# Altium integrated library LT Converter Current to Voltage.IntLib: 1 symbol
Pins are listed as number, name and electrical type; pins without a type are passive.

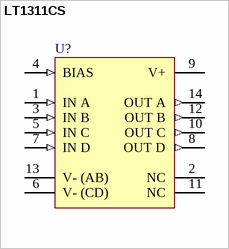
[diagram p0: symbol LT1311CS]

## LT1311CS
designator U?
Quad 12MHz, 145ns Settling Precision Current-to-Voltage Converter for Optical Disk Drives; Note: Pins 2 and 11 are NC (not internally connected) pins.; Note: 1055; Published: 8-Jun-2000; LatestRevisionDate: 13-Apr-2006; LatestRevisionNote: IPC-7351 Footprint Added.; DatasheetVersion: 1996; PackageReference: S14; Publisher: Altium Limited; PackageDescription: 14-Pin Small Outline Integrated Circuit 1.27 mm Pitch; Code_JEDEC: MS-012-AB; Code_IPC: SOIC127P600-14; ComponentLink1Description: Manufacturer Link; ComponentLink1URL: http://www.linear.com/; ComponentLink2Description: Datasheet; ComponentLink2URL: http://www.linear.com/pc/downloadDocument.do?navId=H0,C3,P1047,D2088
footprint S14_N (SOIC, 14-Leads, Body 8.6x3.9mm, Pitch 1.27mm, IPC Medium Density)
footprint S14_L (SOIC, 14-Leads, Body 8.6x3.9mm, Pitch 1.27mm, IPC High Density)
footprint S14_M (SOIC, 14-Leads, Body 8.6x3.9mm, Pitch 1.27mm, IPC Low Density)
3D model S14 (14-Pin Small Outline Integrated Circuit 1.27 mm Pitch)
pins: 1 IN A (in), 2 NC, 3 IN B (in), 4 BIAS (in), 5 IN C (in), 6 V- (CD) (power), 7 IN D (in), 8 OUT D (out), 9 V+ (power), 10 OUT C (out), 11 NC, 12 OUT B (out), 13 V- (AB) (power), 14 OUT A (out)